# Altium footprint library CME-SIP.PcbLib: 1 footprints
Each footprint in its own frame and in the unit in brackets; x right, y up, seen from the top. Pads: shape width x height; smd on the part's side, far side on the other; paste and mask are expansions set on the pad; w line width, h text height; cw(c..) or ccw(c..) is an arc to the next point about the centre after c.
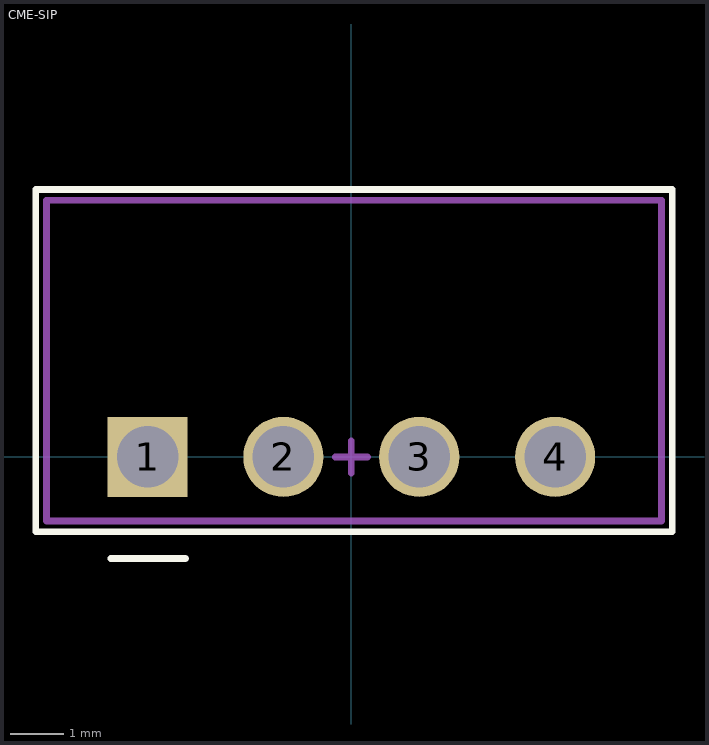
[diagram p0: the footprint, top view; thin cyan lines are the x and y axes]

## CME-SIP [mm]
pads (4):
  rect 1.5x1.5 hole 1.15 mask+0.1: 1(-3.81,0)
  round 1.5 hole 1.15 mask+0.1: 2(-1.27,0) 3(1.27,0) 4(3.81,0)
Top Overlay:
  lines w0.127: -4.5,-1.9 -3.1,-1.9 ; -5.9,-1.4 -5.9,-1.2 -5.9,5 6,5 6,-1.4 -5.9,-1.4
Mechanical 13:
  lines w0.127: -5.7,-1.2 5.8,-1.2 5.8,4.8 -5.7,4.8 -5.7,-1.2
Mechanical 15:
  lines w0.127: -0.3,0 0,0 ; 0,-0.3 0,0 ; 0,0.3 0,0 ; 0.3,0 0,0
3D body "mps_dcdc_cme_sc_a.STEP": height 10.01, standoff -4.09, extent -5.75,-1.2 5.75,4.82